# Altium schematic symbol library PMU_Texas_Instruments_TLC7733IPWR_2.93.SchLib: 1 symbol
Pins are listed as number, name and electrical type; pins without a type are passive.

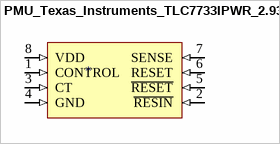
[diagram p0: symbol PMU_Texas_Instruments_TLC7733IPWR_2.93]

## PMU_Texas_Instruments_TLC7733IPWR_2.93
designator *  (value not drawn)
Supervisory Circuits 2.93V Monitor; Manufacturer 1: Texas Instruments; Manufacturer Part Number 1: TLC7733IPWR; Supplier 1: Mouser; Supplier Part Number 1: 595-TLC7733IPWR
footprint PMU_Texas_Instruments_TLC7733IPWR_2.93
pins: 1 CONTROL (in), 2 ~{RESIN} (in), 3 CT (in), 4 GND (in), 5 ~{RESET} (in), 6 RESET (in), 7 SENSE (in), 8 VDD (in)